# EAGLE library part ADR3412 (library 1_spektrak)
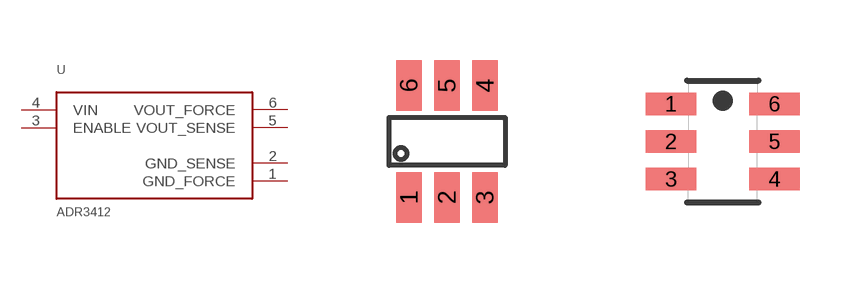
[diagram p15: symbol with the pads of REF_1.2; footprints REF_1.2, SOT23-6]

Designator prefix U

## ADR3412'OLD'  [REF_1.2]
1  GND_FORCE
2  GND_SENSE
3  ENABLE
4  VIN
5  VOUT_SENSE
6  VOUT_FORCE

## ADR3412  [SOT23-6]
Pads as for REF_1.2

## Footprint REF_1.2 (pad centres in mm)
smd 0.635 x 1.27: 1 -0.9,-1.4; 2 0.05,-1.4; 3 1,-1.4; 4 1,1.4; 5 0.05,1.4; 6 -0.9,1.4

## Footprint SOT23-6 (pad centres in mm)
smd 1.27 x 0.559: 1 -1.295,0.94; 2 -1.295,0; 3 -1.295,-0.94; 4 1.295,-0.94; 5 1.295,0; 6 1.295,0.94